# Altium footprint library PCB - LEADLESS - DFN - DIODES INC X2-DFN1006-3 N-FET.PCBLIB: 1 footprints
Each footprint in its own frame and in the unit in brackets; x right, y up, seen from the top. Pads: shape width x height; smd on the part's side, far side on the other; paste and mask are expansions set on the pad; w line width, h text height; cw(c..) or ccw(c..) is an arc to the next point about the centre after c.
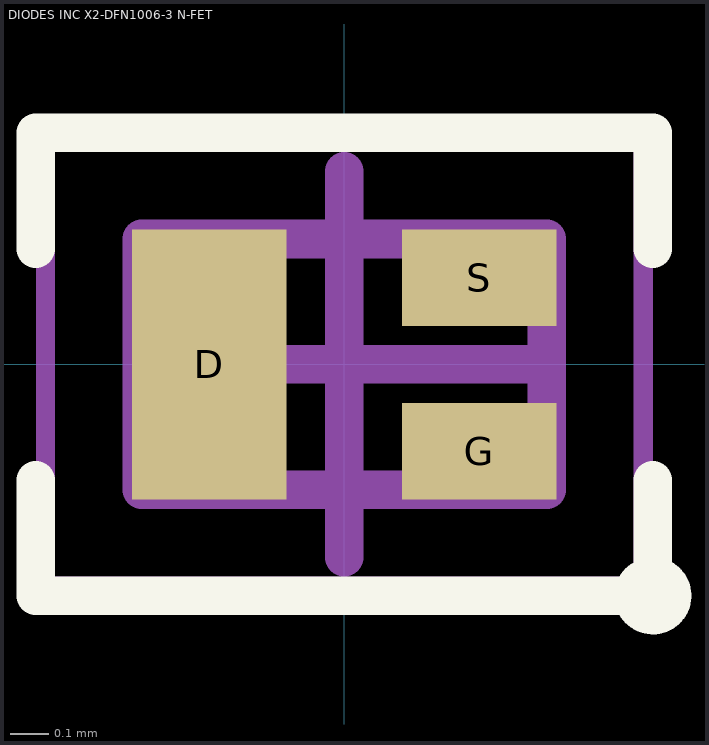
[diagram p0: the footprint, top view; thin cyan lines are the x and y axes]

## DIODES INC X2-DFN1006-3 N-FET [mm] "X2-DFN, 3-Leads, Body 0.60x1.00mm, Pitch 0.65mm"
height 0.4
pads (3):
  rect 0.4x0.7 smd: D(-0.35,0)
  rect 0.4x0.25 smd: G(0.35,-0.225) S(0.35,0.225)
Top Overlay:
  circle w0.1: c0.8,-0.6 r0.05
  lines w0.1: -0.8,-0.3 -0.8,-0.6 0.7,-0.6 0.8,-0.6 0.8,-0.3 ; -0.8,0.3 -0.8,0.6 0.8,0.6 0.8,0.3
Mechanical 13:
  lines w0.1: -0.525,-0.325 -0.525,0.325 0.525,0.325 0.525,-0.325 -0.525,-0.325
Mechanical 15:
  lines w0.05: -0.775,-0.575 -0.775,0.575 0.775,0.575 0.775,-0.575 -0.775,-0.575
  lines w0.1: -0.5,0 0.5,0 ; 0,-0.5 0,0.5
3D body "DIODES INC X2-DFN1006-3.step": height 0.4, standoff 0, extent -0.525,-0.325 0.525,0.325